# EAGLE library part CP2112-GM (library Silicon Labs)
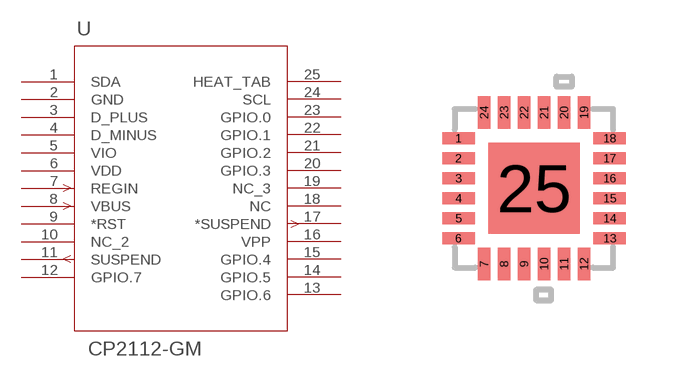
[diagram p1: symbol with the pads of QFN24_4X4; footprint QFN24_4X4]

Designator prefix U

## CP2112-GM  [QFN24_4X4]
1  SDA  pas
2  GND  pwr
3  D_PLUS  pas
4  D_MINUS  pas
5  VIO  pwr
6  VDD  pwr
7  REGIN  in
8  VBUS  in
9  *RST  pas
10  NC_2  nc
11  SUSPEND  out
12  GPIO.7  pas
13  GPIO.6  pas
14  GPIO.5  pas
15  GPIO.4  pas
16  VPP  pas
17  *SUSPEND  out
18  NC  nc
19  NC_3  nc
20  GPIO.3  pas
21  GPIO.2  pas
22  GPIO.1  pas
23  GPIO.0  pas
24  SCL  pas
25  HEAT_TAB  pas

## Footprint QFN24_4X4 (pad centres in mm)
smd 0.813 x 0.305: 1 -1.892,1.25; 2 -1.892,0.75; 3 -1.892,0.25; 4 -1.892,-0.25; 5 -1.892,-0.75; 6 -1.892,-1.25; 13 1.892,-1.25; 14 1.892,-0.75; 15 1.892,-0.25; 16 1.892,0.25; 17 1.892,0.75; 18 1.892,1.25
smd 0.305 x 0.813: 7 -1.25,-1.892; 8 -0.75,-1.892; 9 -0.25,-1.892; 10 0.25,-1.892; 11 0.75,-1.892; 12 1.25,-1.892; 19 1.25,1.892; 20 0.75,1.892; 21 0.25,1.892; 22 -0.25,1.892; 23 -0.75,1.892; 24 -1.25,1.892
smd 2.286 x 2.286: 25 0,0